# EAGLE library part REL-G5V-1-OMRON (library Relais)
Relais-Omron G5V-1 5V/1A
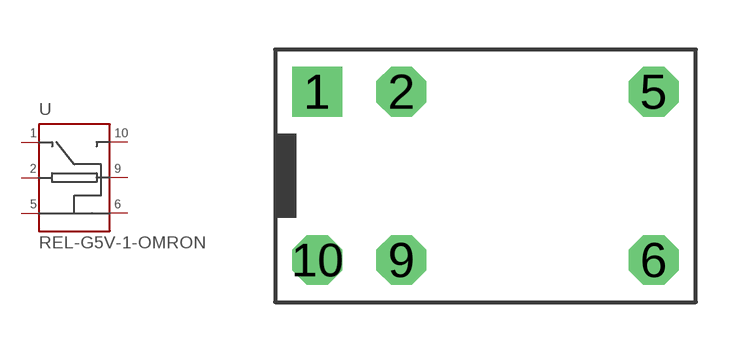
[diagram p0: symbol with the pads of REL.G5V-1; footprint REL.G5V-1]

Designator prefix -

## REL-G5V-1-OMRON  [REL.G5V-1]
1  1
2  2
5  5
6  6
9  9
10  10

## Footprint REL.G5V-1 (pad centres in mm)
drill 1 square: 1 -5.08,2.54
drill 1 octagon: 2 -2.54,2.54; 5 5.08,2.54; 6 5.08,-2.54; 9 -2.54,-2.54; 10 -5.08,-2.54